# Altium footprint library Trans_Infineon_BSS138WH6433XTMA1_eec_IPC_A.PcbLib: 1 footprints
Each footprint in its own frame and in the unit in brackets; x right, y up, seen from the top. Pads: shape width x height; smd on the part's side, far side on the other; paste and mask are expansions set on the pad; w line width, h text height; cw(c..) or ccw(c..) is an arc to the next point about the centre after c.
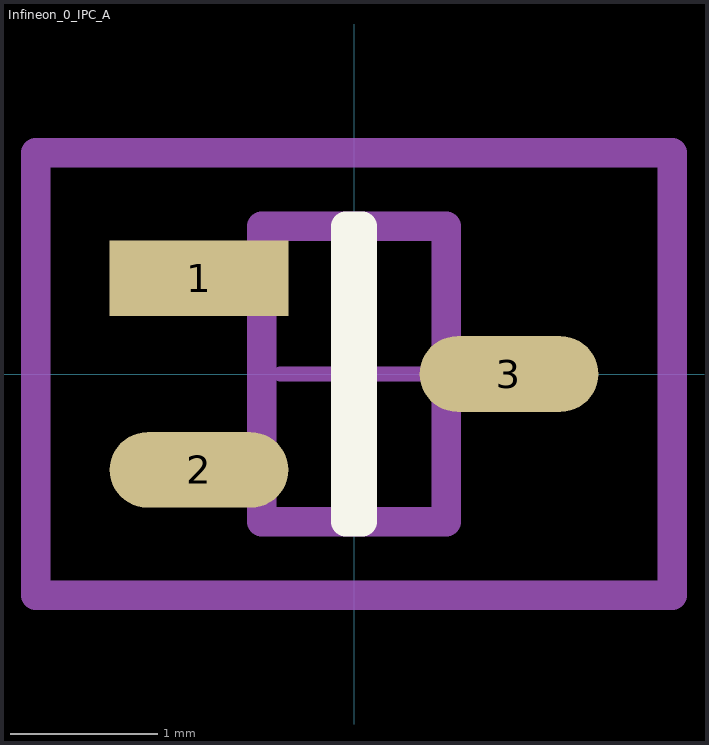
[diagram p0: the footprint, top view; thin cyan lines are the x and y axes]

## Infineon_0_IPC_A [mm]
pads (3):
  rect 1.212x0.512 smd paste+0 mask+0: 1(-1.05,0.65)
  rrect100% 1.212x0.512 smd paste+0 mask+0: 2(-1.05,-0.65) 3(1.05,0)
Top Overlay:
  lines w0.2: -0.056,-1 -0.056,1 0.056,1 0.056,-1 -0.056,-1
Mechanical 10:
  lines w0.2: -2.156,-1.5 2.156,-1.5 2.156,1.5 -2.156,1.5 -2.156,-1.5
  text ".Designator" at 0,0 h1
Mechanical 12:
  lines w0.2: -0.625,-1 0.625,-1 0.625,1 -0.625,1 -0.625,-1
Mechanical 15:
  lines w0.1: -0.5,0 0.5,0 ; 0,-0.5 0,0.5
  lines w0.2: -2.156,-1.5 2.156,-1.5 2.156,1.5 -2.156,1.5 -2.156,-1.5